# Altium footprint library 150283DS73103.PcbLib: 1 footprints
Each footprint in its own frame and in the unit in brackets; x right, y up, seen from the top. Pads: shape width x height; smd on the part's side, far side on the other; paste and mask are expansions set on the pad; w line width, h text height; cw(c..) or ccw(c..) is an arc to the next point about the centre after c.
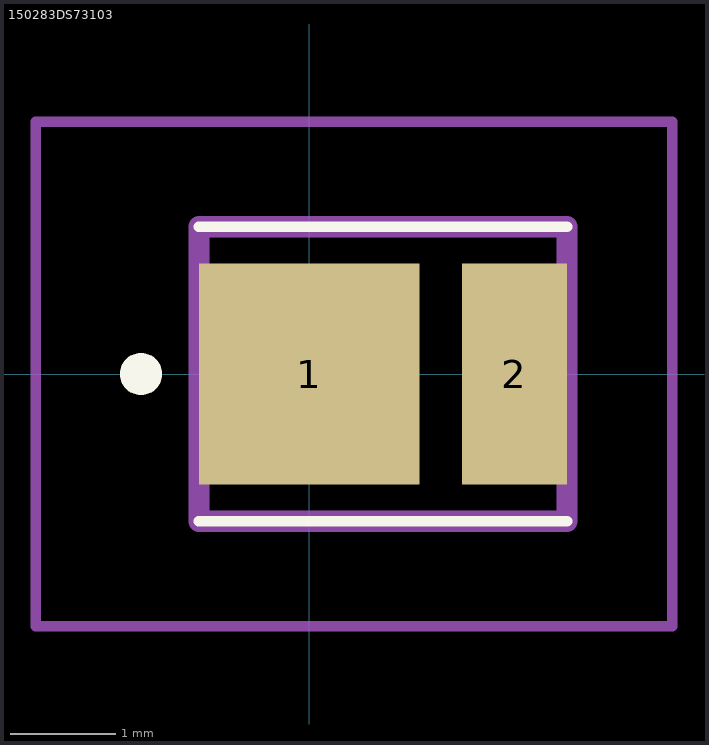
[diagram p0: the footprint, top view; thin cyan lines are the x and y axes]

## 150283DS73103 [mm]
pads (2):
  rect 2.1x2.1 smd: 1(0,0)
  rect 1x2.1 smd: 2(1.95,0)
Top Overlay:
  lines w0.1: -1.05,-1.4 2.45,-1.4 ; -1.05,1.4 2.45,1.4
  lines w0.2: -1.7,0 cw(c-1.6,0) -1.5,0 ; -1.7,0 -1.7,0 ; -1.7,0 ccw(c-1.6,0) -1.5,0 ; -1.5,0 -1.5,0
Mechanical 15:
  lines w0.2: -1.05,-1.4 2.45,-1.4 2.45,1.4 -1.05,1.4 -1.05,-1.4
Mechanical 20:
  lines w0.1: -2.6,-2.4 3.45,-2.4 3.45,2.4 -2.6,2.4 -2.6,-2.4